# EAGLE library part 66201221022 (library Wuerth_Elektronik_eiCan_08_Micro_Power_Connectors)
WR-MPC3 3.00mm Male Dual Row Angled Header with Plastic Pegs, 12 Pins
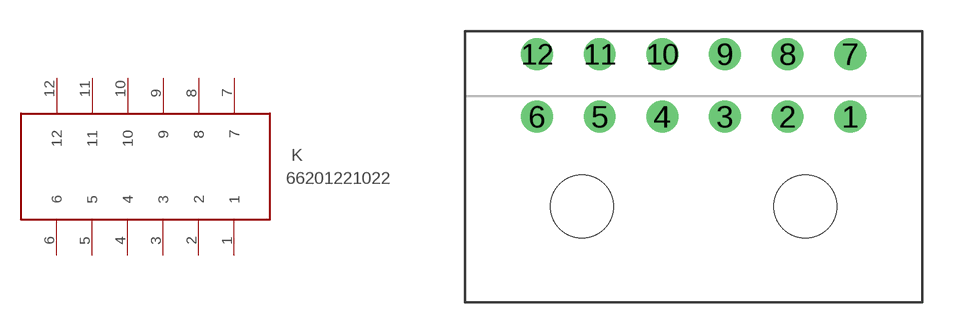
[diagram p33: symbol with the pads of 66201221022; footprint 66201221022]

Designator prefix K

## 66201221022  [66201221022]
1  1
2  2
3  3
4  4
5  5
6  6
7  7
8  8
9  9
10  10
11  11
12  12

## Footprint 66201221022 (pad centres in mm)
WR-MPC3 3.00mm Male Dual Row Angled Header with Plastic Pegs, 12 Pins
drill 1.02 round: 1 0,-1.5; 2 -3,-1.5; 3 -6,-1.5; 4 -9,-1.5; 5 -12,-1.5; 6 -15,-1.5; 7 0,1.5; 8 -3,1.5; 9 -6,1.5; 10 -9,1.5; 11 -12,1.5; 12 -15,1.5
hole 3 at -2.15,-5.8
hole 3 at -12.85,-5.8